# Altium schematic symbol library DigitalBuckBoost.SchLib: 6 symbols
Pins are listed as number, name and electrical type; pins without a type are passive.

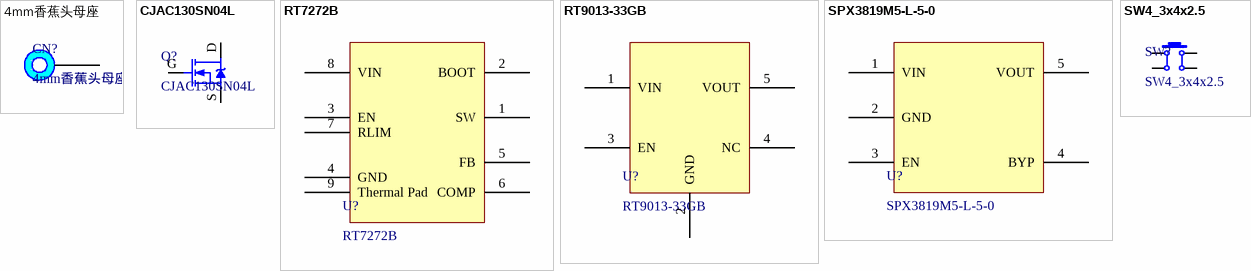
[diagram p0: symbols 4mm香蕉头母座 to SW4_3x4x2.5]

## 4mm香蕉头母座
designator CN?
footprint 4mm香蕉头母座
pins: 1

## CJAC130SN04L
designator Q?
130A 40V 2.0mΩ@10V N-Channel Power MOSFET
footprint PDFNWB5×6-8L
pins: D, G, S

## RT7272B
designator U?
footprint RT7272B (SOP, 8-Leads, Body 4.90x3.91mm, Pitch 1.27mm, Thermal Pad 2.30x2.30mm, IPC Medium Density)
pins: 1 SW, 2 BOOT, 3 EN, 4 GND, 5 FB, 6 COMP, 7 RLIM, 8 VIN, 9 Thermal Pad

## RT9013-33GB
designator U?
footprint RT9013-33GB
pins: 1 VIN, 2 GND, 3 EN, 4 NC, 5 VOUT

## SPX3819M5-L-5-0
designator U?
footprint SPX3819M5-L-5-0 (SOT23, 5-Leads, Body 2.90x2.80mm, Pitch 0.95mm, IPC Medium Density)
pins: 1 VIN, 2 GND, 3 EN, 4 BYP, 5 VOUT

## SW4_3x4x2.5
designator SW?
footprint SW4_3x4x2.5
pins: 1, 2, 3, 4